# EAGLE library part NEO (library X893)
NEO-5 series http://www.ublox.com/en/gps-modules.html
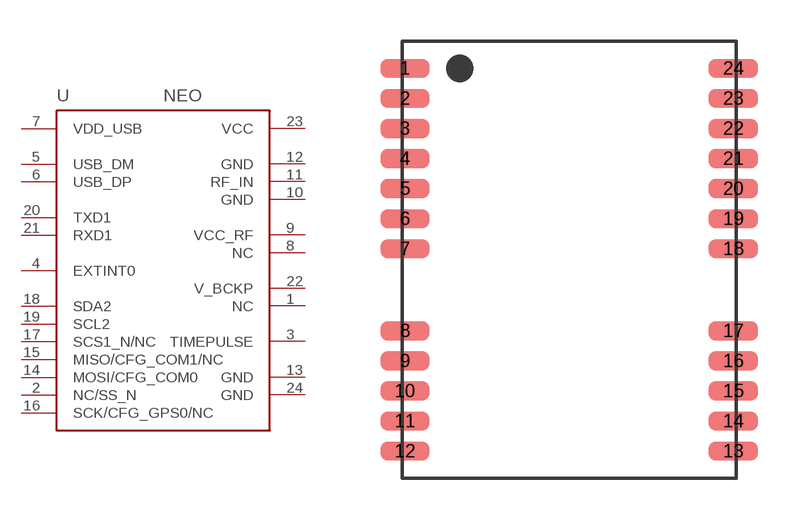
[diagram p15: symbol with the pads of NEO-5X; footprint NEO-5X]

Designator prefix U

## NEO-5Q  [NEO-5X]
1  NC  pas
2  NC/SS_N  in
3  TIMEPULSE  out
4  EXTINT0  in
5  USB_DM
6  USB_DP
7  VDD_USB  pas
8  NC  pas
9  VCC_RF  pas
10  GND  pwr
11  RF_IN  pas
12  GND  pwr
13  GND  pwr
14  MOSI/CFG_COM0
15  MISO/CFG_COM1/NC
16  SCK/CFG_GPS0/NC
17  SCS1_N/NC  out
18  SDA2
19  SCL2
20  TXD1  out
21  RXD1  in
22  V_BCKP  pas
23  VCC  pas
24  GND  pwr

## NEO-5M  [NEO-5X]
Pads as for NEO-5X

## Footprint NEO-5X (pad centres in mm)
smd 1.8 x 0.7: 1 -6,7; 2 -6,5.9; 3 -6,4.8; 4 -6,3.7; 5 -6,2.6; 6 -6,1.5; 7 -6,0.4; 8 -6,-2.6; 9 -6,-3.7; 10 -6,-4.8; 11 -6,-5.9; 12 -6,-7; 13 6,-7; 14 6,-5.9; 15 6,-4.8; 16 6,-3.7; 17 6,-2.6; 18 6,0.4; 19 6,1.5; 20 6,2.6; 21 6,3.7; 22 6,4.8; 23 6,5.9; 24 6,7